# Altium footprint library BODY_3D_STEP_CHECKSUM0.PcbLib: 1 footprints
Each footprint in its own frame and in the unit in brackets; x right, y up, seen from the top. Pads: shape width x height; smd on the part's side, far side on the other; paste and mask are expansions set on the pad; w line width, h text height; cw(c..) or ccw(c..) is an arc to the next point about the centre after c.

## BODY_3D_STEP [mm] "3D body loaded from STEP file"
3D body "PSEMI QFN-24 4x4.step": height 0, standoff 0, extent -2.01,-2.01 2.01,2.01